# Altium footprint library PcbLib1.PcbLib: 51 footprints (part 3 of 4)
Each footprint in its own frame and in the unit in brackets; x right, y up, seen from the top. Pads: shape width x height; smd on the part's side, far side on the other; paste and mask are expansions set on the pad; w line width, h text height; cw(c..) or ccw(c..) is an arc to the next point about the centre after c.
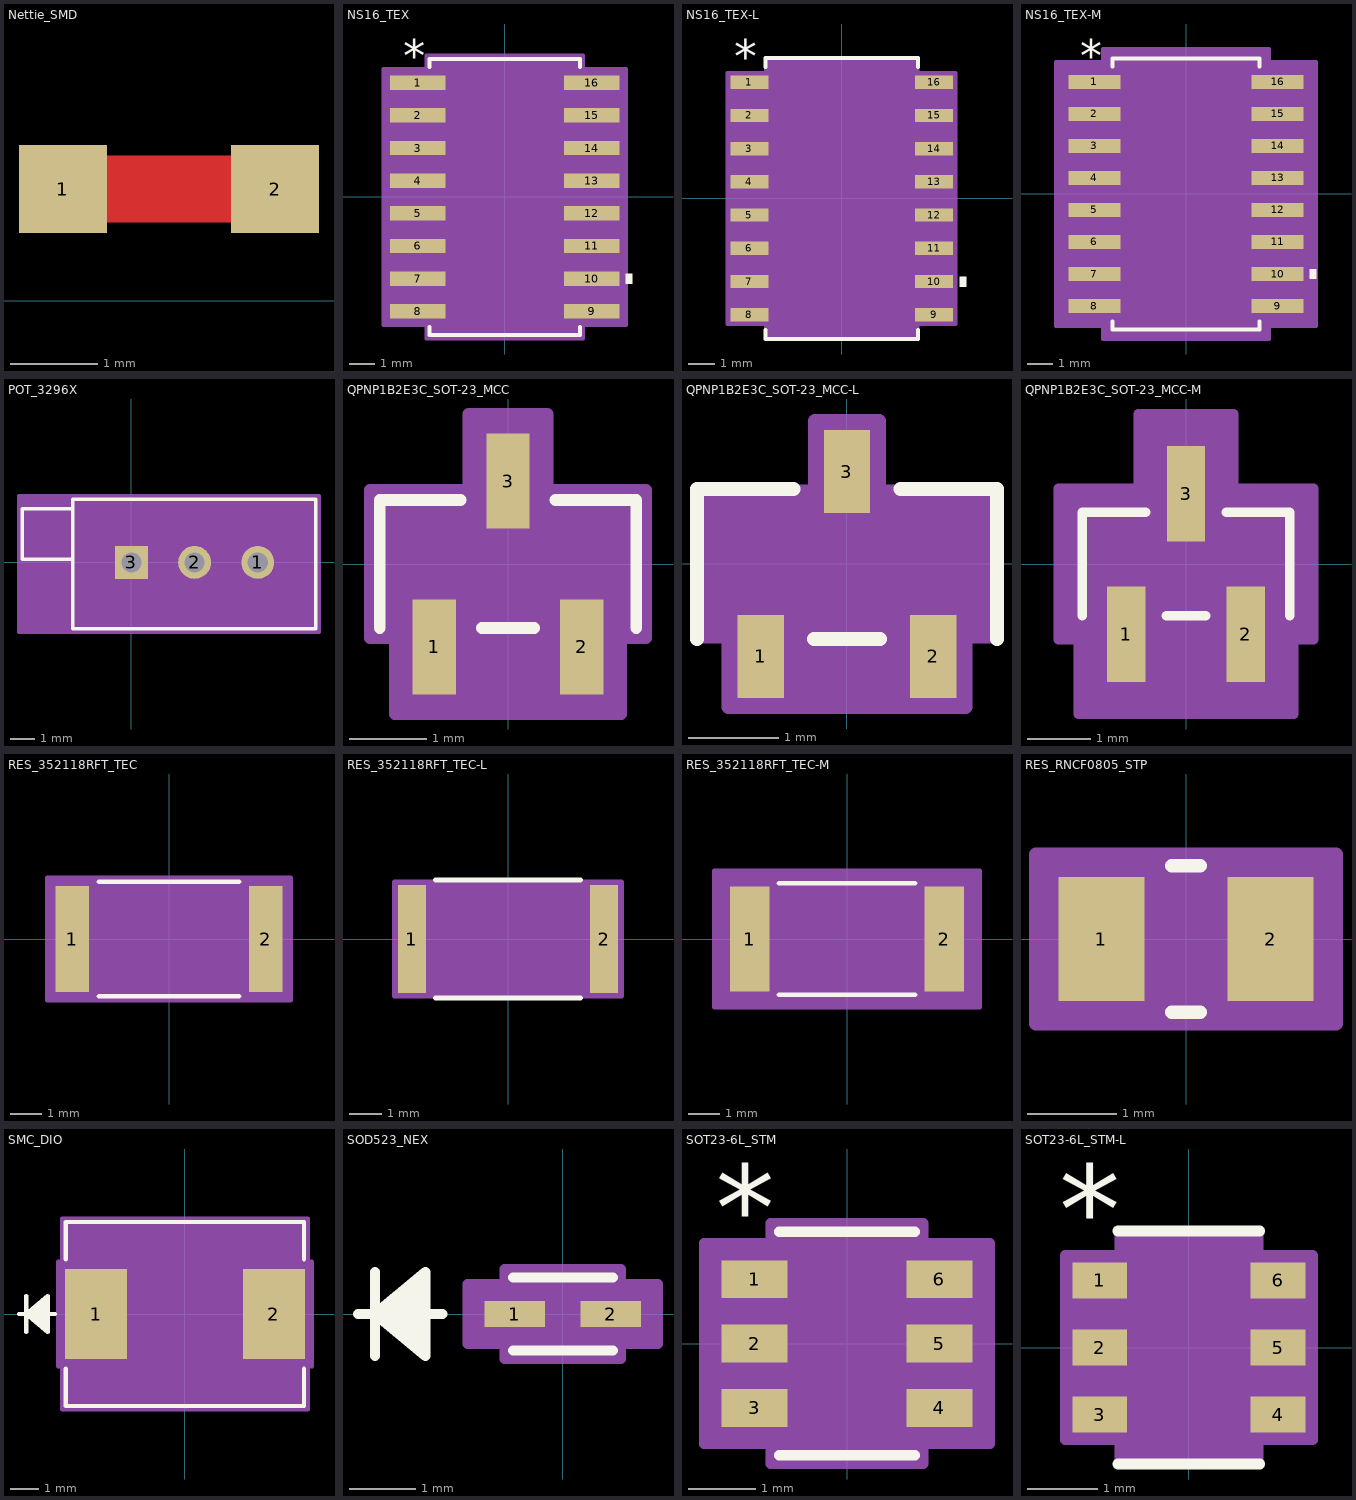
[diagram p2: the footprints below, top view; thin cyan lines are the x and y axes]

## Nettie_SMD [mm]
pads (2):
  rect 1x1 smd mask-10: 1(-7.112,1.27) 2(-4.699,1.27)
Top Layer:
  rectangle: -6.985,0.889 -4.953,1.651

## NS16_TEX [mil]
pads (16):
  rect 85x22 smd paste-42.5 mask-42.5: 1(-133,175) 2(-133,125) 3(-133,75) 4(-133,25) 5(-133,-25) 6(-133,-75) 7(-133,-125) 8(-133,-175) 9(133,-175) 10(133,-125) 11(133,-75) 12(133,-25) 13(133,25) 14(133,75) 15(133,125) 16(133,175)
Top Overlay:
  region: 185.5,-117.5 195.5,-117.5 195.5,-132.5 185.5,-132.5
  lines w6: -115,-199.1 -115,-211.5 115,-211.5 115,-199.1 ; -115,199.1 -115,211.5 115,211.5 115,199.1
  text "*" at -155.5,192 h50
Mechanical 13:
  lines w0: -12,206.5 ccw(c0,206.5) 12,206.5
  lines w1: -161.5,-185 -161.5,-165 -110,-165 -110,-185 -161.5,-185 ; -161.5,-135 -161.5,-115 -110,-115 -110,-135 -161.5,-135 ; -161.5,-85 -161.5,-65 -110,-65 -110,-85 -161.5,-85 ; -161.5,-35 -161.5,-15 -110,-15 -110,-35 -161.5,-35 ; -161.5,15 -161.5,35 -110,35 -110,15 -161.5,15 ; -161.5,65 -161.5,85 -110,85 -110,65 -161.5,65 ; -161.5,115 -161.5,135 -110,135 -110,115 -161.5,115 ; -161.5,165 -161.5,185 -110,185 -110,165 -161.5,165 ; -110,-206.5 110,-206.5 110,206.5 -110,206.5 -110,-206.5 ; 110,-185 110,-165 161.5,-165 161.5,-185 110,-185 ; 110,-135 110,-115 161.5,-115 161.5,-135 110,-135 ; 110,-85 110,-65 161.5,-65 161.5,-85 110,-85 ; 110,-35 110,-15 161.5,-15 161.5,-35 110,-35 ; 110,15 110,35 161.5,35 161.5,15 110,15 ; 110,65 110,85 161.5,85 161.5,65 110,65 ; 110,115 110,135 161.5,135 161.5,115 110,115 ; 110,165 110,185 161.5,185 161.5,165 110,165
  text "*" at -107.5,153.5 h50
Mechanical 15:
  region: -120,-196 -185.5,-196 -185.5,196 -120,196 -120,216.5 120,216.5 120,196 185.5,196 185.5,-196 120,-196 120,-216.5 -120,-216.5
  lines w6: -185.5,-196 -185.5,196 -120,196 -120,216.5 120,216.5 120,196 185.5,196 185.5,-196 120,-196 120,-216.5 -120,-216.5 -120,-196 -185.5,-196
3D body "NS16_TEX.step": height 79.09, standoff 0, extent -161.5,-206.5 161.5,206.5

## NS16_TEX-L [mil]
pads (16):
  rect 57x20 smd paste+0 mask+0: 1(-139,175) 2(-139,125) 3(-139,75) 4(-139,25) 5(-139,-25) 6(-139,-75) 7(-139,-125) 8(-139,-175) 9(139,-175) 10(139,-125) 11(139,-75) 12(139,-25) 13(139,25) 14(139,75) 15(139,125) 16(139,175)
Top Overlay:
  region: 177.5,-117.5 187.5,-117.5 187.5,-132.5 177.5,-132.5
  lines w6: -115,-198.1 -115,-211.5 115,-211.5 115,-198.1 ; -115,198.1 -115,211.5 115,211.5 115,198.1
  text "*" at -161.5,190 h50
Mechanical 13:
  lines w0: -12,206.5 ccw(c0,206.5) 12,206.5
  lines w1: -161.5,-185 -161.5,-165 -110,-165 -110,-185 -161.5,-185 ; -161.5,-135 -161.5,-115 -110,-115 -110,-135 -161.5,-135 ; -161.5,-85 -161.5,-65 -110,-65 -110,-85 -161.5,-85 ; -161.5,-35 -161.5,-15 -110,-15 -110,-35 -161.5,-35 ; -161.5,15 -161.5,35 -110,35 -110,15 -161.5,15 ; -161.5,65 -161.5,85 -110,85 -110,65 -161.5,65 ; -161.5,115 -161.5,135 -110,135 -110,115 -161.5,115 ; -161.5,165 -161.5,185 -110,185 -110,165 -161.5,165 ; -110,-206.5 110,-206.5 110,206.5 -110,206.5 -110,-206.5 ; 110,-185 110,-165 161.5,-165 161.5,-185 110,-185 ; 110,-135 110,-115 161.5,-115 161.5,-135 110,-135 ; 110,-85 110,-65 161.5,-65 161.5,-85 110,-85 ; 110,-35 110,-15 161.5,-15 161.5,-35 110,-35 ; 110,15 110,35 161.5,35 161.5,15 110,15 ; 110,65 110,85 161.5,85 161.5,65 110,65 ; 110,115 110,135 161.5,135 161.5,115 110,115 ; 110,165 110,185 161.5,185 161.5,165 110,165
  text "*" at -107.5,153.5 h50
Mechanical 15:
  region: -114,-189 -171.5,-189 -171.5,189 -114,189 -114,210.5 114,210.5 114,189 171.5,189 171.5,-189 114,-189 114,-210.5 -114,-210.5
  lines w6: -171.5,-189 -171.5,189 -114,189 -114,210.5 114,210.5 114,189 171.5,189 171.5,-189 114,-189 114,-210.5 -114,-210.5 -114,-189 -171.5,-189
3D body "NS16_TEX.step": height 79.09, standoff 0, extent -161.5,-206.5 161.5,206.5

## NS16_TEX-M [mil]
pads (16):
  rect 81x22 smd paste+0 mask+0: 1(-143,175) 2(-143,125) 3(-143,75) 4(-143,25) 5(-143,-25) 6(-143,-75) 7(-143,-125) 8(-143,-175) 9(143,-175) 10(143,-125) 11(143,-75) 12(143,-25) 13(143,25) 14(143,75) 15(143,125) 16(143,175)
Top Overlay:
  region: 193.5,-117.5 203.5,-117.5 203.5,-132.5 193.5,-132.5
  lines w6: -115,-199.1 -115,-211.5 115,-211.5 115,-199.1 ; -115,199.1 -115,211.5 115,211.5 115,199.1
  text "*" at -165.5,192 h50
Mechanical 13:
  lines w0: -12,206.5 ccw(c0,206.5) 12,206.5
  lines w1: -161.5,-185 -161.5,-165 -110,-165 -110,-185 -161.5,-185 ; -161.5,-135 -161.5,-115 -110,-115 -110,-135 -161.5,-135 ; -161.5,-85 -161.5,-65 -110,-65 -110,-85 -161.5,-85 ; -161.5,-35 -161.5,-15 -110,-15 -110,-35 -161.5,-35 ; -161.5,15 -161.5,35 -110,35 -110,15 -161.5,15 ; -161.5,65 -161.5,85 -110,85 -110,65 -161.5,65 ; -161.5,115 -161.5,135 -110,135 -110,115 -161.5,115 ; -161.5,165 -161.5,185 -110,185 -110,165 -161.5,165 ; -110,-206.5 110,-206.5 110,206.5 -110,206.5 -110,-206.5 ; 110,-185 110,-165 161.5,-165 161.5,-185 110,-185 ; 110,-135 110,-115 161.5,-115 161.5,-135 110,-135 ; 110,-85 110,-65 161.5,-65 161.5,-85 110,-85 ; 110,-35 110,-15 161.5,-15 161.5,-35 110,-35 ; 110,15 110,35 161.5,35 161.5,15 110,15 ; 110,65 110,85 161.5,85 161.5,65 110,65 ; 110,115 110,135 161.5,135 161.5,115 110,115 ; 110,165 110,185 161.5,185 161.5,165 110,165
  text "*" at -107.5,153.5 h50
Mechanical 15:
  region: -130,-206 -203.5,-206 -203.5,206 -130,206 -130,226.5 130,226.5 130,206 203.5,206 203.5,-206 130,-206 130,-226.5 -130,-226.5
  lines w6: -203.5,-206 -203.5,206 -130,206 -130,226.5 130,226.5 130,206 203.5,206 203.5,-206 130,-206 130,-226.5 -130,-226.5 -130,-206 -203.5,-206
3D body "NS16_TEX.step": height 79.09, standoff 0, extent -161.5,-206.5 161.5,206.5

## POT_3296X [mil]
pads (3):
  round 52 / inner round 60 / far side round 52 hole 32 paste-99999 mask+0: 1(200,0) 2(100,0)
  rect 52x52 / inner round 60 / far side rect 52x52 hole 32 paste-99999 mask+0: 3(0,0)
Top Overlay:
  lines w6: -93,5 -173,5 -173,85 -93,85 ; -93,-105 292,-105 292,100 -93,100 -93,-105
Mechanical 13:
  circle w0: c211.5,-80 r5
  lines w1: -88,10 -168,10 -168,80 -88,80 ; -88,-100 287,-100 287,95 -88,95 -88,-100
Mechanical 15:
  region: 297,-110 -178,-110 -178,105 297,105
  lines w6: -178,-110 -178,105 297,105 297,-110 -178,-110
3D body "POT_3296X.step": height 375, standoff -250, extent -112.01,-100 297.99,95

## QPNP1B2E3C_SOT-23_MCC [mil]
pads (3):
  rect 22x48 smd paste+0 mask+0: 1(-37.4,-42) 2(37.4,-42) 3(0,42)
Top Overlay:
  lines w6: -65,-32.5 -65,32.5 -24.1,32.5 ; -13.3,-32.5 13.3,-32.5 ; 24.1,32.5 65,32.5 65,-32.5
Mechanical 13:
  circle w0: c-37.4,-17.5 r3
  lines w1: -60,-27.5 -60,27.5 60,27.5 60,-27.5 -60,-27.5 ; -47.4,-52 -27.4,-52 -27.4,-27.5 -47.4,-27.5 -47.4,-52 ; -10,27.5 -10,52 10,52 10,27.5 -10,27.5 ; 27.4,-52 47.4,-52 47.4,-27.5 27.4,-27.5 27.4,-52
Mechanical 15:
  region: -70,-37.5 -70,37.5 -20,37.5 -20,76 20,76 20,37.5 70,37.5 70,-37.5 57.4,-37.5 57.4,-76 -57.4,-76 -57.4,-37.5
  lines w6: -70,-37.5 -57.4,-37.5 -57.4,-76 57.4,-76 57.4,-37.5 70,-37.5 70,37.5 20,37.5 20,76 -20,76 -20,37.5 -70,37.5 -70,-37.5
3D body "QPNP1B2E3C_SOT-23_MCC.step": height 43.11, standoff 0, extent -60,-52.01 60,52.01

## QPNP1B2E3C_SOT-23_MCC-L [mil]
pads (3):
  rect 20x36 smd paste+0 mask+0: 1(-37.4,-40) 2(37.4,-40) 3(0,40)
Top Overlay:
  lines w6: -65,-32.5 -65,32.5 -23.1,32.5 ; -14.3,-32.5 14.3,-32.5 ; 23.1,32.5 65,32.5 65,-32.5
Mechanical 13:
  circle w0: c-37.4,-17.5 r3
  lines w1: -60,-27.5 60,-27.5 60,27.5 -60,27.5 -60,-27.5 ; -47.4,-52 -47.4,-27.5 -27.4,-27.5 -27.4,-52 -47.4,-52 ; -10,27.5 10,27.5 10,52 -10,52 -10,27.5 ; 27.4,-52 27.4,-27.5 47.4,-27.5 47.4,-52 27.4,-52
Mechanical 15:
  region: -64,-31.5 -64,31.5 -14,31.5 -14,62 14,62 14,31.5 64,31.5 64,-31.5 51.4,-31.5 51.4,-62 -51.4,-62 -51.4,-31.5
  lines w6: -64,-31.5 -64,31.5 -14,31.5 -14,62 14,62 14,31.5 64,31.5 64,-31.5 51.4,-31.5 51.4,-62 -51.4,-62 -51.4,-31.5 -64,-31.5
3D body "QPNP1B2E3C_SOT-23_MCC.step": height 43.11, standoff 0, extent -60,-52.01 60,52.01

## QPNP1B2E3C_SOT-23_MCC-M [mil]
pads (3):
  rect 24x60 smd paste+0 mask+0: 1(-37.4,-44) 2(37.4,-44) 3(0,44)
Top Overlay:
  lines w6: -65,-32.5 -65,32.5 -25.1,32.5 ; -12.3,-32.5 12.3,-32.5 ; 25.1,32.5 65,32.5 65,-32.5
Mechanical 13:
  circle w0: c-37.4,-17.5 r3
  lines w1: -60,-27.5 -60,27.5 60,27.5 60,-27.5 -60,-27.5 ; -47.4,-52 -27.4,-52 -27.4,-27.5 -47.4,-27.5 -47.4,-52 ; -10,27.5 -10,52 10,52 10,27.5 -10,27.5 ; 27.4,-52 47.4,-52 47.4,-27.5 27.4,-27.5 27.4,-52
Mechanical 15:
  region: -80,-47.5 -80,47.5 -30,47.5 -30,94 30,94 30,47.5 80,47.5 80,-47.5 67.4,-47.5 67.4,-94 -67.4,-94 -67.4,-47.5
  lines w6: -80,-47.5 -67.4,-47.5 -67.4,-94 67.4,-94 67.4,-47.5 80,-47.5 80,47.5 30,47.5 30,94 -30,94 -30,47.5 -80,47.5 -80,-47.5
3D body "QPNP1B2E3C_SOT-23_MCC.step": height 43.11, standoff 0, extent -60,-52.01 60,52.01

## RES_352118RFT_TEC [mil]
pads (2):
  rect 42x132 smd paste+0 mask+0: 1(-119.97,0) 2(119.97,0)
Top Overlay:
  lines w6: -86.86,-71 86.86,-71 ; -86.86,71 86.86,71
Mechanical 13:
  lines w1: -126.97,-66 -126.97,66 ; -126.97,-66 126.97,-66 ; -126.97,-66 -98.97,-66 -98.97,66 -126.97,66 ; -126.97,-66 -126.97,66 ; -126.97,66 126.97,66 ; 126.97,-66 126.97,66 ; 126.97,-66 126.97,66 ; 126.97,-66 98.97,-66 98.97,66 126.97,66
Mechanical 15:
  region: 150.97,-76 -150.97,-76 -150.97,76 150.97,76
  lines w6: -150.97,-76 150.97,-76 150.97,76 -150.97,76 -150.97,-76
3D body "RES_352118RFT_TEC.step": height 25.98, standoff 0, extent -126.97,-65.98 126.97,65.98

## RES_352118RFT_TEC-L [mil]
pads (2):
  rect 34x130 smd paste+0 mask+0: 1(-115.97,0) 2(115.97,0)
Top Overlay:
  lines w6: -87.32,-71 87.32,-71 ; -87.32,71 87.32,71
Mechanical 13:
  lines w1: -126.97,-66 -126.97,66 ; -126.97,-66 126.97,-66 ; -126.97,-66 -98.97,-66 -98.97,66 -126.97,66 ; -126.97,-66 -126.97,66 ; -126.97,66 126.97,66 ; 126.97,-66 126.97,66 ; 126.97,-66 126.97,66 ; 126.97,-66 98.97,-66 98.97,66 126.97,66
Mechanical 15:
  region: 136.97,-69 -136.97,-69 -136.97,69 136.97,69
  lines w6: -136.97,-69 136.97,-69 136.97,69 -136.97,69 -136.97,-69
3D body "RES_352118RFT_TEC.step": height 25.98, standoff 0, extent -126.97,-65.98 126.97,65.98

## RES_352118RFT_TEC-M [mil]
pads (2):
  rect 50x134 smd paste+0 mask+0: 1(-123.97,0) 2(123.97,0)
Top Overlay:
  lines w6: -86.49,-71 86.49,-71 ; -86.49,71 86.49,71
Mechanical 13:
  lines w1: -126.97,-66 -126.97,66 ; -126.97,-66 -98.97,-66 -98.97,66 -126.97,66 ; -126.97,-66 126.97,-66 ; -126.97,-66 -126.97,66 ; -126.97,66 126.97,66 ; 126.97,-66 98.97,-66 98.97,66 126.97,66 ; 126.97,-66 126.97,66 ; 126.97,-66 126.97,66
Mechanical 15:
  region: 168.97,-87 -168.97,-87 -168.97,87 168.97,87
  lines w6: -168.97,-87 -168.97,87 168.97,87 168.97,-87 -168.97,-87
3D body "RES_352118RFT_TEC.step": height 25.98, standoff 0, extent -126.97,-65.98 126.97,65.98

## RES_RNCF0805_STP [mil]
pads (2):
  rect 38x55 smd paste+0 mask+0: 1(-37.5,0) 2(37.5,0)
Top Overlay:
  lines w6: -6.39,-32.5 6.39,-32.5 ; -6.39,32.5 6.39,32.5
Mechanical 13:
  lines w1: -42.5,-27.5 -42.5,27.5 ; -42.5,-27.5 -18.5,-27.5 -18.5,27.5 -42.5,27.5 ; -42.5,-27.5 42.5,-27.5 ; -42.5,-27.5 -42.5,27.5 ; -42.5,27.5 42.5,27.5 ; 42.5,-27.5 18.5,-27.5 18.5,27.5 42.5,27.5 ; 42.5,-27.5 42.5,27.5 ; 42.5,-27.5 42.5,27.5
Mechanical 15:
  region: 66.5,-37.5 -66.5,-37.5 -66.5,37.5 66.5,37.5
  lines w6: -66.5,-37.5 -66.5,37.5 66.5,37.5 66.5,-37.5 -66.5,-37.5
3D body "RES_RNCF0805_STP.step": height 25.98, standoff 0, extent -42.52,-27.48 42.52,27.48

## SMC_DIO [mm]
pads (2):
  rect 2.18x3.18 smd paste+0 mask+0: 1(-3.127,0) 2(3.127,0)
Top Overlay:
  lines w0.152: -5.843,0 -4.573,0 ; -5.589,-0.635 -5.589,0.635 ; -4.827,-0.508 -5.589,0 ; -4.827,-0.381 -5.589,0 ; -4.827,-0.254 -5.589,0 ; -4.827,-0.127 -5.589,0 ; -4.827,0.127 -5.589,0 ; -4.827,0.254 -5.589,0 ; -4.827,0.381 -5.589,0 ; -4.827,0.508 -5.589,0 ; -4.192,-1.923 -4.192,-3.237 4.192,-3.237 4.192,-1.923 ; -4.192,1.923 -4.192,3.237 4.192,3.237 4.192,1.923 ; -5.589,0 -4.827,0.635 -4.827,-0.635 -5.589,0
Mechanical 13:
  lines w0.025: -5.843,0 -4.573,0 ; -5.589,-0.635 -5.589,0.635 ; -4.827,-0.508 -5.589,0 ; -4.827,-0.381 -5.589,0 ; -4.827,-0.254 -5.589,0 ; -4.827,-0.127 -5.589,0 ; -4.827,0.127 -5.589,0 ; -4.827,0.254 -5.589,0 ; -4.827,0.381 -5.589,0 ; -4.827,0.508 -5.589,0 ; -5.589,0 -4.827,0.635 -4.827,-0.635 -5.589,0 ; -4.065,-3.11 4.065,-3.11 4.065,3.11 -4.065,3.11 -4.065,-3.11
Mechanical 15:
  region: -4.319,-1.844 -4.471,-1.844 -4.471,1.844 -4.319,1.844 -4.319,3.364 4.319,3.364 4.319,1.844 4.471,1.844 4.471,-1.844 4.319,-1.844 4.319,-3.364 -4.319,-3.364
  lines w0.152: -4.471,-1.844 -4.471,1.844 -4.319,1.844 -4.319,3.364 4.319,3.364 4.319,1.844 4.471,1.844 4.471,-1.844 4.319,-1.844 4.319,-3.364 -4.319,-3.364 -4.319,-1.844 -4.471,-1.844
3D body "SMC_DIO.step": height 2.45, standoff 0, extent -4.065,-3.11 4.065,3.11

## SOD523_NEX [mm]
pads (2):
  rect 0.911x0.391 smd paste+0 mask+0: 1(-0.725,0) 2(0.725,0)
Top Overlay:
  lines w0.152: -3.086,0 -1.816,0 ; -2.832,-0.635 -2.832,0.635 ; -2.07,-0.508 -2.832,0 ; -2.07,-0.381 -2.832,0 ; -2.07,-0.254 -2.832,0 ; -2.07,-0.127 -2.832,0 ; -2.07,0.127 -2.832,0 ; -2.07,0.254 -2.832,0 ; -2.07,0.381 -2.832,0 ; -2.07,0.508 -2.832,0 ; -0.752,-0.552 0.752,-0.552 ; -0.752,0.552 0.752,0.552 ; -2.832,0 -2.07,-0.635 -2.07,0.635 -2.832,0
Mechanical 13:
  lines w0.025: -3.086,0 -1.816,0 ; -2.832,-0.635 -2.832,0.635 ; -2.07,-0.508 -2.832,0 ; -2.07,-0.381 -2.832,0 ; -2.07,-0.254 -2.832,0 ; -2.07,-0.127 -2.832,0 ; -2.07,0.127 -2.832,0 ; -2.07,0.254 -2.832,0 ; -2.07,0.381 -2.832,0 ; -2.07,0.508 -2.832,0 ; -0.625,-0.212 -0.413,-0.425 ; -0.625,0.212 -0.413,0.425 ; -2.832,0 -2.07,-0.635 -2.07,0.635 -2.832,0 ; -0.825,-0.17 -0.625,-0.17 -0.625,0.17 -0.825,0.17 -0.825,-0.17 ; -0.625,-0.425 -0.625,0.425 0.625,0.425 0.625,-0.425 -0.625,-0.425 ; 0.625,-0.17 0.825,-0.17 0.825,0.17 0.625,0.17 0.625,-0.17
Mechanical 15:
  region: -0.879,-0.449 -1.435,-0.449 -1.435,0.449 -0.879,0.449 -0.879,0.679 0.879,0.679 0.879,0.449 1.435,0.449 1.435,-0.449 0.879,-0.449 0.879,-0.679 -0.879,-0.679
  lines w0.152: -1.435,-0.449 -0.879,-0.449 -0.879,-0.679 0.879,-0.679 0.879,-0.449 1.435,-0.449 1.435,0.449 0.879,0.449 0.879,0.679 -0.879,0.679 -0.879,0.449 -1.435,0.449 -1.435,-0.449
3D body "SOD523_NEX.step": height 1.2, standoff 0, extent -0.905,-0.425 0.905,0.425

## SOT23-6L_STM [mil]
pads (6):
  rect 38.5x22 smd paste+0 mask+0: 1(-53.75,37.4) 2(-53.75,0) 3(-53.75,-37.4) 4(53.75,-37.4) 5(53.75,0) 6(53.75,37.4)
Top Overlay:
  lines w6: -39.5,-65 39.5,-65 ; -39.5,65 39.5,65
  text "*" at -76.25,54.4 h50
Mechanical 13:
  lines w0: -12,60 ccw(c0,60) 12,60
  lines w1: -59,-47.4 -59,-27.4 -34.5,-27.4 -34.5,-47.4 -59,-47.4 ; -59,-10 -59,10 -34.5,10 -34.5,-10 -59,-10 ; -59,27.4 -59,47.4 -34.5,47.4 -34.5,27.4 -59,27.4 ; -34.5,-60 34.5,-60 34.5,60 -34.5,60 -34.5,-60 ; 34.5,-47.4 34.5,-27.4 59,-27.4 59,-47.4 34.5,-47.4 ; 34.5,-10 34.5,10 59,10 59,-10 34.5,-10 ; 34.5,27.4 34.5,47.4 59,47.4 59,27.4 34.5,27.4
  text "*" at -32,7 h50
Mechanical 15:
  region: -44.5,-58.4 -83,-58.4 -83,58.4 -44.5,58.4 -44.5,70 44.5,70 44.5,58.4 83,58.4 83,-58.4 44.5,-58.4 44.5,-70 -44.5,-70
  lines w6: -83,-58.4 -83,58.4 -44.5,58.4 -44.5,70 44.5,70 44.5,58.4 83,58.4 83,-58.4 44.5,-58.4 44.5,-70 -44.5,-70 -44.5,-58.4 -83,-58.4
3D body "SOT23-6L_STM.step": height 57.09, standoff 0, extent -59.02,-60 59.02,60

## SOT23-6L_STM-L [mil]
pads (6):
  rect 30.5x20 smd paste+0 mask+0: 1(-49.75,37.4) 2(-49.75,0) 3(-49.75,-37.4) 4(49.75,-37.4) 5(49.75,0) 6(49.75,37.4)
Top Overlay:
  lines w6: -39.5,-65 39.5,-65 ; -39.5,65 39.5,65
  text "*" at -72.25,52.4 h50
Mechanical 13:
  lines w0: -12,60 ccw(c0,60) 12,60
  lines w1: -59,-47.4 -34.5,-47.4 -34.5,-27.4 -59,-27.4 -59,-47.4 ; -59,-10 -34.5,-10 -34.5,10 -59,10 -59,-10 ; -59,27.4 -34.5,27.4 -34.5,47.4 -59,47.4 -59,27.4 ; -34.5,-60 -34.5,60 34.5,60 34.5,-60 -34.5,-60 ; 34.5,-47.4 59,-47.4 59,-27.4 34.5,-27.4 34.5,-47.4 ; 34.5,-10 59,-10 59,10 34.5,10 34.5,-10 ; 34.5,27.4 59,27.4 59,47.4 34.5,47.4 34.5,27.4
  text "*" at -32,7 h50
Mechanical 15:
  region: -38.5,-51.4 -69,-51.4 -69,51.4 -38.5,51.4 -38.5,64 38.5,64 38.5,51.4 69,51.4 69,-51.4 38.5,-51.4 38.5,-64 -38.5,-64
  lines w6: -69,-51.4 -38.5,-51.4 -38.5,-64 38.5,-64 38.5,-51.4 69,-51.4 69,51.4 38.5,51.4 38.5,64 -38.5,64 -38.5,51.4 -69,51.4 -69,-51.4
3D body "SOT23-6L_STM.step": height 57.09, standoff 0, extent -59.02,-60 59.02,60